# Altium schematic symbol library Connectors.SchLib: 6 symbols
Pins are listed as number, name and electrical type; pins without a type are passive.

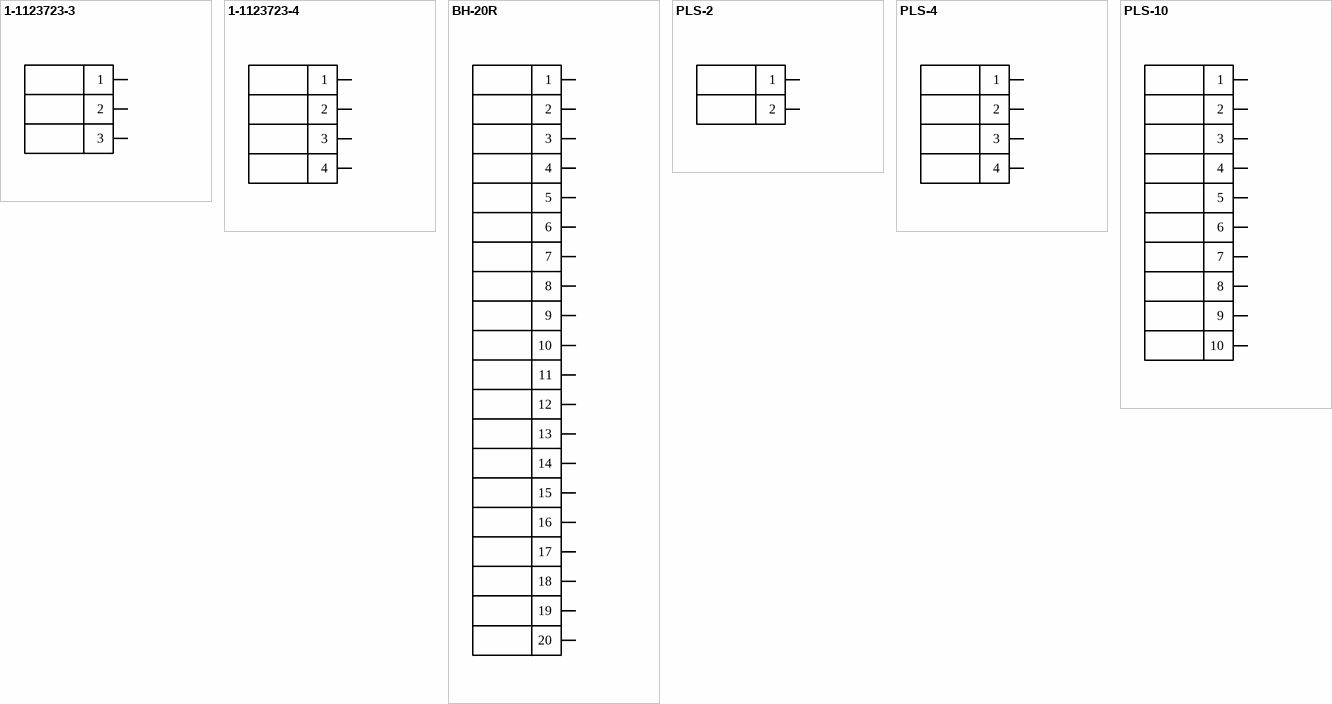
[diagram p0: symbols 1-1123723-3 to PLS-10]

## 1-1123723-3
designator X, comment 0
1-1123723-3 (B3P-VH), Разъем 3 pin шаг 3.96мм
footprint 1-1123723-3
pins: 1, 2, 3

## 1-1123723-4
designator X, comment 0
1-1123723-4 (B4P-VH), Разъем 4 pin шаг 3.96мм
footprint 1-1123723-4
pins: 1, 2, 3, 4

## BH-20R
designator X, comment 0
BH-20R (DS1013-20R) (IDC-20MR), Вилка на плату угловая 20pin 2.54мм
footprint BH-20R (DS1013-20R) (IDC-20MR) (X)
pins: 1, 2, 3, 4, 5, 6, 7, 8, 9, 10, 11, 12, 13, 14, 15, 16, 17, 18, 19, 20

## PLS-2
designator X, comment 0
PLS-2 (DS-1021-1x2), Вилка штыревая 2.54мм 1x2pin прямая тип1
footprint PLS-2 (X)
pins: 1, 2

## PLS-4
designator X, comment 0
PLS-4 (DS-1021-1x4), Вилка штыревая 2.54мм 1x4pin прямая тип1
footprint PLS-4 (X)
pins: 1, 2, 3, 4

## PLS-10
designator X, comment 0
PLS-10(DS-1021-1x10), Вилка штыревая 2.54мм 1x10pin прямая тип1
footprint PLS-10 (X)
pins: 1, 2, 3, 4, 5, 6, 7, 8, 9, 10